# Altium footprint library pth-potentiometer.PcbLib: 1 footprints
Each footprint in its own frame and in the unit in brackets; x right, y up, seen from the top. Pads: shape width x height; smd on the part's side, far side on the other; paste and mask are expansions set on the pad; w line width, h text height; cw(c..) or ccw(c..) is an arc to the next point about the centre after c.
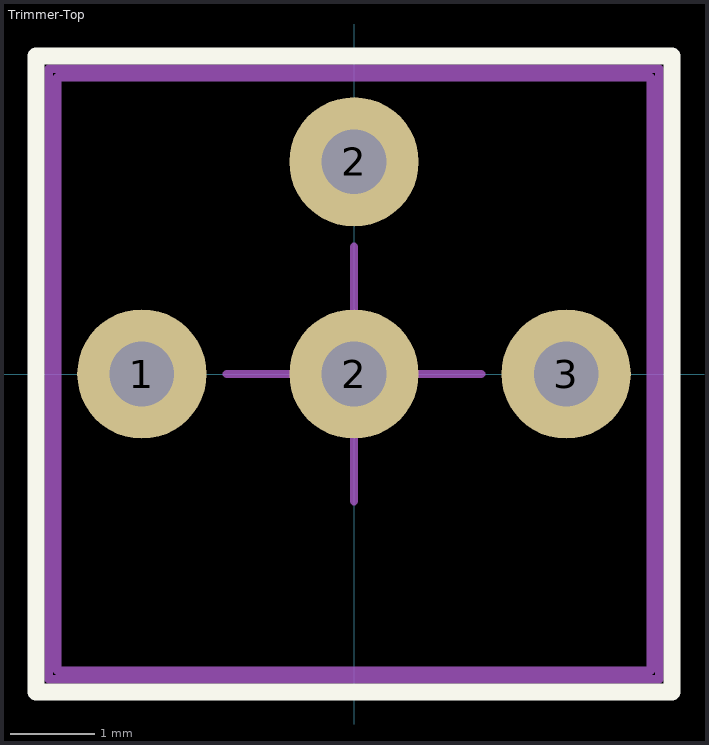
[diagram p0: the footprint, top view; thin cyan lines are the x and y axes]

## Trimmer-Top [mil] "Cermet Trimmer 7mm x 7mm x 5.8mm"
height 228.35
pads (4):
  round 60 hole 30: 1(-98.43,0) 2(0,0) 2(0,98.43) 3(98.43,0)
Top Overlay:
  lines w7.87: -147.64,-147.64 147.64,-147.64 147.64,147.64 -147.64,147.64 -147.64,-147.64
Mechanical 13:
  lines w3.94: -137.8,-137.8 137.8,-137.8 137.8,137.8 -137.8,137.8 -137.8,-137.8
Mechanical 15:
  lines w3.94: -59.06,0 59.06,0 ; 0,-59.06 0,59.06 ; -141.73,-141.73 -141.73,141.73 141.73,141.73 141.73,-141.73 -141.73,-141.73
  text ".Designator" at -98.43,-118.11 h19.68
3D body: height 216.54, standoff -196.85, extent -133.86,-133.86 133.86,133.86